# EAGLE library part LM13700N (library guitar-pedals)
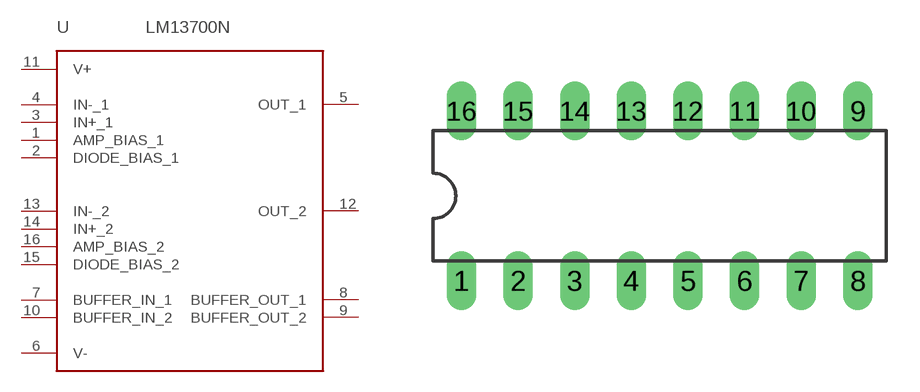
[diagram p2: symbol with the pads of DIL16; footprint DIL16]

Designator prefix U

## LM13700N  [DIL16]
1  AMP_BIAS_1
2  DIODE_BIAS_1
3  IN+_1
4  IN-_1
5  OUT_1
6  V-
7  BUFFER_IN_1
8  BUFFER_OUT_1
9  BUFFER_OUT_2
10  BUFFER_IN_2
11  V+
12  OUT_2
13  IN-_2
14  IN+_2
15  DIODE_BIAS_2
16  AMP_BIAS_2

## Footprint DIL16 (pad centres in mm)
Dual In Line Package
drill 0.813 long: 1 -8.89,-3.81; 2 -6.35,-3.81; 3 -3.81,-3.81; 4 -1.27,-3.81; 5 1.27,-3.81; 6 3.81,-3.81; 7 6.35,-3.81; 8 8.89,-3.81; 9 8.89,3.81; 10 6.35,3.81; 11 3.81,3.81; 12 1.27,3.81; 13 -1.27,3.81; 14 -3.81,3.81; 15 -6.35,3.81; 16 -8.89,3.81